# Altium schematic symbol library CAN2XG.SCHLIB: 35 symbols
Pins are listed as number, name and electrical type; pins without a type are passive.

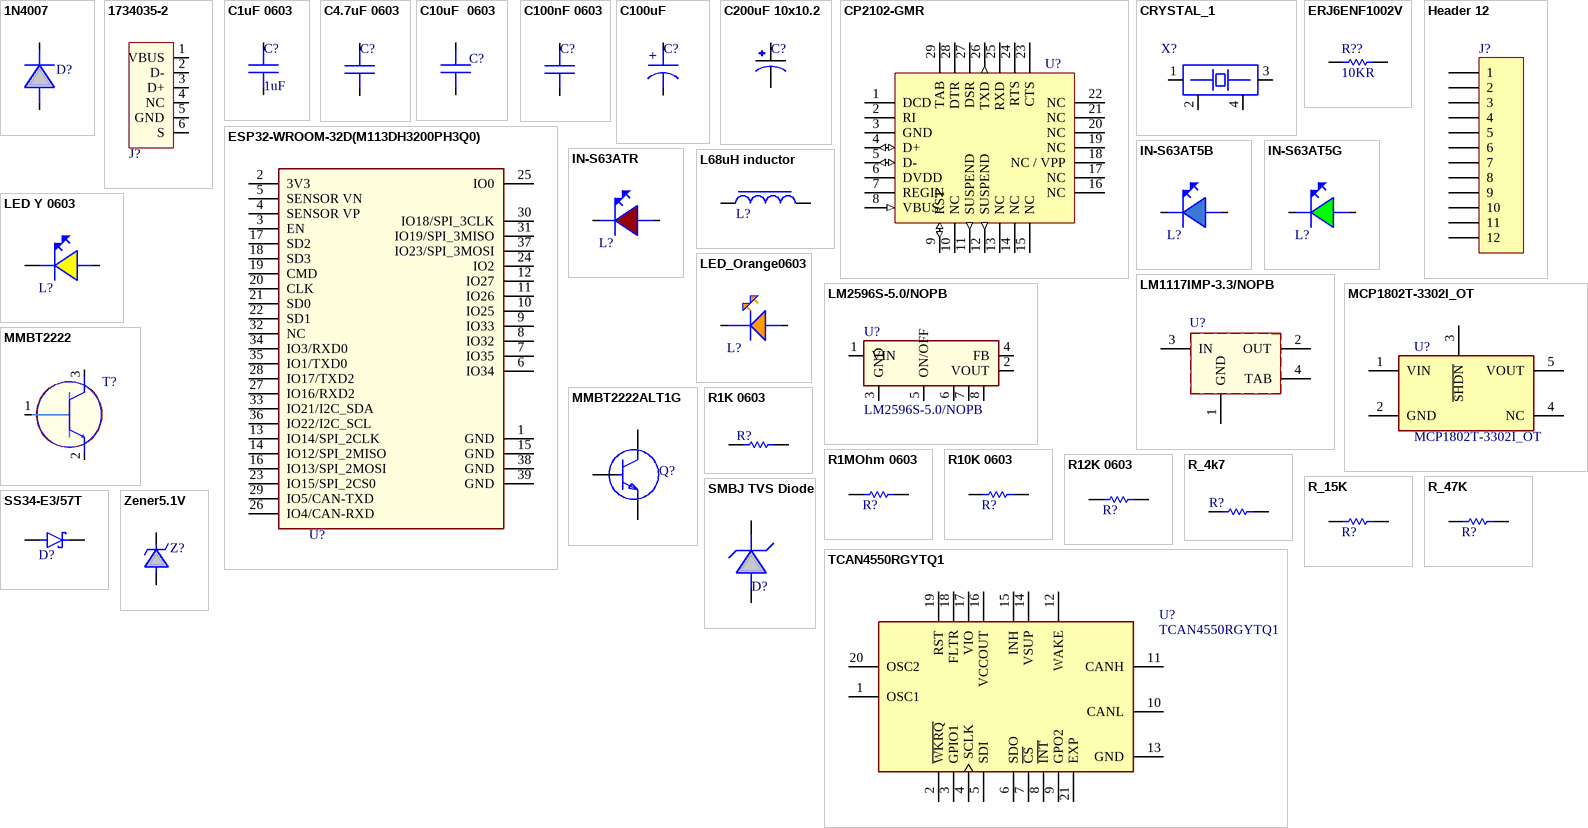
[diagram p0: symbols 1N4007 to Zener5.1V]

## 1N4007
designator D?  (value not drawn)
DO214 SMD Version of 1N4007 / Forward Current: 1A / Max Repititive Reverse Voltage: 1000 V / Max RMS Voltage: 700V / Max DC Blocking Voltage: 1000V / Max instantaneous forward voltage: 1.1 V                    https://www.ktron.in/product/m7-diode-sma/; ComponentLink1Description: Supplier Link; ComponentLink1URL: https://www.ktron.in/product/m7-diode-sma/
footprint DO214 (1N4007)
pins: 1 K, 2 A

## 1734035-2
designator J?  (value not drawn)
CONN RCPT USB2.0 MINI B SMD R/A                         https://www.sunrom.com/p/usb-mini-b-smd-connector; Manufacturer 1: TE Connectivity; Category 1: Connectors; Plating: Nickel; Gender: Receptacle; Number of Contacts: 5; Number of Ports: 1; Plating Thickness: 0.76um; Contact Current Rating: 1A; Circuit Application: Power; Connector System: Cable-to-Board; Insulation Resistance: 100MR; Pitch: 0.8mm; PCB Thickness: 1.57mm; Supplier 1: Digi-Key; Supplier Part Number 1: A31727CT-ND; Manufacturer Part Number 1: 1734035-2; RoHS: Yes; Description 1: CONN RCPT USB2.0 MINI B SMD R/A; Stock 1: 19934; Pricing 1: 1=1.14000, 10=1.00300, 25=0.94360, 50=0.90440, 100=0.86500, 250=0.78640 (USD); Mount: Surface Mount,Horizontal; Contact Plating: Nickel,Gold; Contact Material: Bronze; Color: Black; Number of Terminals: 5; Housing Color: Black; Housing Material: Thermoplastic; Min Operating Temperature: -40°C; Max Operating Temperature: 85°C; Packaging: Tape and Reel; Package Quantity: 700; Connector Type: Receptacle; Termination: SMD/SMT; Number of Positions: 5; Orientation: Right Angle; USB Standard: USB 2.0; Length: 8.45mm; Width: 7.7mm; Radiation Hardening: No; ELV: Compliant; Flammability Rating: UL94 V-0; REACH SVHC: No SVHC; Lead Free: Lead Free; ComponentLink1URL: https://datasheet.ciiva.com/11759/0900766b80ed62f8-11759638.pdf?src-supplier=RSComponents; ComponentLink1Description: https://datasheet.ciiva.com/11759/0900766b80ed62f8-11759638.pdf?src-supplier=RSComponents; ComponentLink2URL: https://datasheet.ciiva.com/16292/1734035-2-16292193.pdf?src-supplier=Future+Electronics; ComponentLink2Description: https://datasheet.ciiva.com/16292/1734035-2-16292193.pdf?src-supplier=Future+Electronics; ComponentLink3URL: https://datasheet.ciiva.com/30172/ddecontrolleractionsrchrtrvdocnm117734536doctypedsdoclan-30172977.pdf?src-supplier=Onlinecomponents.com; ComponentLink3Description: https://datasheet.ciiva.com/30172/ddecontrolleractionsrchrtrvdocnm117734536doctypedsdoclan-30172977.pdf?src-supplier=Onlinecomponents.com; ComponentLink4URL: https://datasheet.ciiva.com/3094/eng-cd-1734035-a-3094354.pdf?src-supplier=Avnet; ComponentLink4Description: https://datasheet.ciiva.com/3094/eng-cd-1734035-a-3094354.pdf?src-supplier=Avnet; ComponentLink5URL: https://datasheet.ciiva.com/8015/1650952-8015098.pdf?src-supplier=Element14; ComponentLink5Description: https://datasheet.ciiva.com/8015/1650952-8015098.pdf?src-supplier=Element14; ComponentLink6URL: https://datasheet.ciiva.com/851/eng-cd-1734035-e1-c-1734035-851069.pdf?src-supplier=Digi-Key; ComponentLink6Description: https://datasheet.ciiva.com/851/eng-cd-1734035-e1-c-1734035-851069.pdf?src-supplier=Digi-Key; ComponentLink7URL: https://datasheet.ciiva.com/851/eng-cd-1734035-e1-c-1734035-851070.pdf?src-supplier=Digi-Key; ComponentLink7Description: https://datasheet.ciiva.com/851/eng-cd-1734035-e1-c-1734035-851070.pdf?src-supplier=Digi-Key; ComponentLink8URL: https://datasheet.ciiva.com/1098/1650952-1098129.pdf?src-supplier=Element14; ComponentLink8Description: https://datasheet.ciiva.com/1098/1650952-1098129.pdf?src-supplier=Element14; ComponentLink9URL: https://datasheet.ciiva.com/16545/eng-cd-1734035-a-16545803.pdf?src-supplier=Avnet+Europe; ComponentLink9Description: https://datasheet.ciiva.com/16545/eng-cd-1734035-a-16545803.pdf?src-supplier=Avnet+Europe; ComponentLink10URL: https://datasheet.ciiva.com/851/eng-cd-1734035-e1-c-1734035-851068.pdf?src-supplier=Digi-Key; ComponentLink10Description: https://datasheet.ciiva.com/851/eng-cd-1734035-e1-c-1734035-851068.pdf?src-supplier=Digi-Key
footprint 1734035-2USB
pins: 1 VBUS, 2 D-, 3 D+, 4 NC, 5 GND, 6 S

## C1uF 0603
designator C?, comment 1uF
CAP CER 1UF 25V  0603     https://www.sunrom.com/p/1uf-105-0603-1608-metric; Tolerance: 80%; Dielectric: Y5V; RoHS: Yes; Mount: Surface Mount; Case/Package: 0603; Weight: 0.000194oz; Case Code (Metric): 2012; Case Code (Imperial): 0603; Max Operating Temperature: 85°C; Package Quantity: 1; Voltage Rating: 25V; Packaging: Tape and Reel; Voltage Rating (DC): 25V; Termination: SMD/SMT; Composition: Ceramic; Length: 2mm; Height: 0.85mm; Width: 0.049inch; Thickness: 0.033inch; Depth: 1.25mm; Radiation Hardening: No; REACH SVHC: No SVHC; Lead Free: Lead Free; Halogen Free: Halogen Free; ComponentLink1URL: https://datasheet.ciiva.com/26863/getdatasheetpartid-419810-26863011.pdf?src-supplier=Verical; ComponentLink1Description: https://datasheet.ciiva.com/26863/getdatasheetpartid-419810-26863011.pdf?src-supplier=Verical; ComponentLink2URL: https://datasheet.ciiva.com/144/mlccorderingcode-144703.pdf?src-supplier=Digi-Key; ComponentLink2Description: https://datasheet.ciiva.com/144/mlccorderingcode-144703.pdf?src-supplier=Digi-Key; ComponentLink3URL: https://datasheet.ciiva.com/144/mlccorderingcode-144704.pdf?src-supplier=Digi-Key; ComponentLink3Description: https://datasheet.ciiva.com/144/mlccorderingcode-144704.pdf?src-supplier=Digi-Key; ComponentLink4URL: https://datasheet.ciiva.com/144/mlccorderingcode-144705.pdf?src-supplier=Digi-Key; ComponentLink4Description: https://datasheet.ciiva.com/144/mlccorderingcode-144705.pdf?src-supplier=Digi-Key; ComponentLink5URL: https://datasheet.ciiva.com/13208/upy-gp-np0-16v-to-50v-8-13208251.pdf?src-supplier=Mouser; ComponentLink5Description: https://datasheet.ciiva.com/13208/upy-gp-np0-16v-to-50v-8-13208251.pdf?src-supplier=Mouser; ComponentLink6URL: https://datasheet.ciiva.com/28450/1132289-28450860.pdf?src-supplier=Element14; ComponentLink6Description: https://datasheet.ciiva.com/28450/1132289-28450860.pdf?src-supplier=Element14; Capacitance: 1uF
footprint CAP-0603
pins: 1, 2

## C4.7uF 0603
designator C?, comment 4.7uF  (value not drawn)
Capacitance: 4.7uF / Voltage: 50V / Mounting: SMD / Tolerance: ±10 % / Material: Ceramic                https://robu.in/product/4-7uf-4700nf-50v-capacitor-0603-smd-package-pack-of-10/
footprint CAP-0603
pins: 1, 2

## C10uF  0603
designator C?, comment 10uF  (value not drawn)
Multi Layered Ceramic Capacitor / Max Voltage: 25V / Capacitance: 10uF / Manufacturer : Yageo / MFN : CC0603MRX5R8BB106   https://www.ktron.in/product/10uf-25v-ceramic-capacitor-mlcc-smd-0603/
footprint CAP-0603
pins: 1, 2

## C100nF 0603
designator C?, comment 100nF  (value not drawn)
Multi Layered Ceramic Capacitor / Max Voltage: 50V / Capacitance: 100nF / https://www.ktron.in/product/100nf-50v-104-mlcc-0603/
footprint CAP-0603
pins: 1, 2

## C100uF
designator C?, comment 100uf 16V  (value not drawn)
100uF 16V (107C B3528) Tantalum                          https://www.sunrom.com/p/100uf-16v-107c-b3528-tantalum
footprint C100uF (Tantalum Capacitor 3528)
pins: 1 +, 2 -

## C200uF 10x10.2
designator C?, comment 200uF  (value not drawn)
220uF 50V 10x10.5mm SMD Electrolytic Capacitor      https://www.sunrom.com/p/220uf-50v-10x105mm-smd-electrolytic-capacitor
footprint C200uF 10x10.2 (Electrolytic Capacitor)
pins: 1, 2

## CP2102-GMR
designator U?  (value not drawn)
USB-to-UART 1-CH 640byte FIFO 3.3V Automotive 28-Pin QFN EP T/R; Manufacturer 1: Silicon Labs; Category 1: Interface ICs; Nominal Supply Current: 26mA; Number of Channels: 1; Data Rate: 1000Kbps; Max Supply Voltage: 3.6V; Min Supply Voltage: 3V; Operating Supply Current: 20mA; Interface: UART; Manufacturer Part Number 1: CP2102-GMR; RoHS: Yes; Description 1: USB-to-UART 1-CH 640byte FIFO 3.3V Automotive 28-Pin QFN EP T/R; Stock 1: 1496; Pricing 1: 1=3.17000, 25=3.05560, 100=3.03850 (USD); Mount: Surface Mount; Case/Package: QFN; Number of Pins: 28; Weight: 0.00239oz; Contact Plating: Tin; Min Operating Temperature: -40°C; Max Operating Temperature: 85°C; Packaging: Tape and Reel; Package Quantity: 1500; Radiation Hardening: No; Lead Free: Lead Free; ComponentLink1URL: https://datasheet.ciiva.com/6636/cp2102-9-6636566.pdf?src-supplier=Digi-Key; ComponentLink1Description: https://datasheet.ciiva.com/6636/cp2102-9-6636566.pdf?src-supplier=Digi-Key; ComponentLink2URL: https://datasheet.ciiva.com/6636/cp2102-9-6636571.pdf?src-supplier=Digi-Key; ComponentLink2Description: https://datasheet.ciiva.com/6636/cp2102-9-6636571.pdf?src-supplier=Digi-Key; Supplier 1: Digi-Key; Supplier Part Number 1: 336-1160-1-ND
footprint QFN50P500X500X100_HS-29N (QFN, 28-Leads, Body 5.00x5.00mm, Pitch 0.50mm, Thermal Pad 3.13x3.13mm, IPC Medium Density)
pins: 1 DCD "Data Carrier Detect control input (active low)", 2 RI "Ring Indicator control input (active low)", 3 GND (power) "Ground", 4 D+ (io) "USB D+", 5 D- (io) "USB D–", 6 DVDD (power) "3.0–3.6 V Power Supply Voltage Input.", 7 REGIN (power) "5 V Regulator Input. This pin is the input to the on-chip voltage regulator.", 8 VBUS (in) "VBUS Sense Input. This pin should be connected to the VBUS signal", 9 RST (io) "Device Reset. Open-drain output of internal POR or VDD monitor", 10 NC "These pins should be left unconnected", 11 SUSPEND (out) "This pin is driven high when the CP2102/9 enters the USB suspend", 12 SUSPEND (out) "This pin is driven high when the CP2102/9 enters the USB suspend", 13 NC "These pins should be left unconnected", 14 NC "These pins should be left unconnected", 15 NC "These pins should be left unconnected", 16 NC "These pins should be left unconnected", 17 NC "These pins should be left unconnected", 18 NC / VPP (power) "This pin should be left unconnected or tied to VDD", 19 NC "These pins should be left unconnected", 20 NC "These pins should be left unconnected", 21 NC "These pins should be left unconnected", 22 NC "These pins should be left unconnected", 23 CTS "Clear To Send control input (active low)", 24 RTS "Ready to Send control output (active low)", 25 RXD "Asynchronous data input (UART Receive)", 26 TXD (out) "Asynchronous data output (UART Transmit)", 27 DSR "Data Set Ready control input (active low)", 28 DTR "Data Terminal Ready control output (active low)", 29 TAB (power) "Ground"

## CRYSTAL_1
designator X?
ComponentLink1URL: https://www.verical.com/server-webapp/html/getDatasheet?partID=757227&src-supplier=Verical; ComponentLink1Description: https://www.verical.com/server-webapp/html/getDatasheet?partID=757227&src-supplier=Verical; ComponentLink2URL: http://www.txccrystal.com/images/pdf/7m-accuracy.pdf?src-supplier=Digi-Key; ComponentLink2Description: http://www.txccrystal.com/images/pdf/7m-accuracy.pdf?src-supplier=Digi-Key; ComponentLink3URL: http://www.farnell.com/datasheets/1794111.pdf?src-supplier=Element14; ComponentLink3Description: http://www.farnell.com/datasheets/1794111.pdf?src-supplier=Element14; ComponentLink4URL: http://www.mouser.com/ds/2/417/7m-11184.pdf?src-supplier=Mouser; ComponentLink4Description: http://www.mouser.com/ds/2/417/7m-11184.pdf?src-supplier=Mouser
pins: 1, 2, 3, 4

## ERJ6ENF1002V
designator R??  value 10KR  (hidden comment: ERJ6ENF1002V)
RES SMD 10K OHM 1% 1/8W 0805; ComponentLink1URL: https://datasheet.ciiva.com/11808/0900766b80f80784-11808080.pdf?src-supplier=RSComponents; ComponentLink1Description: https://datasheet.ciiva.com/11808/0900766b80f80784-11808080.pdf?src-supplier=RSComponents; ComponentLink2URL: https://datasheet.ciiva.com/16514/aoa0000ce2-16514021.pdf?src-supplier=Avnet+Asia; ComponentLink2Description: https://datasheet.ciiva.com/16514/aoa0000ce2-16514021.pdf?src-supplier=Avnet+Asia; ComponentLink3URL: https://datasheet.ciiva.com/27055/1988971-27055733.pdf?src-supplier=Jameco; ComponentLink3Description: https://datasheet.ciiva.com/27055/1988971-27055733.pdf?src-supplier=Jameco; ComponentLink4URL: https://datasheet.ciiva.com/16759/70260748-16759350.pdf?src-supplier=Allied+Electronics; ComponentLink4Description: https://datasheet.ciiva.com/16759/70260748-16759350.pdf?src-supplier=Allied+Electronics; ComponentLink5URL: https://datasheet.ciiva.com/16725/70260748-16725031.pdf?src-supplier=Allied+Electronics; ComponentLink5Description: https://datasheet.ciiva.com/16725/70260748-16725031.pdf?src-supplier=Allied+Electronics; ComponentLink6URL: https://datasheet.ciiva.com/7830/426256-7830745.pdf?src-supplier=Element14; ComponentLink6Description: https://datasheet.ciiva.com/7830/426256-7830745.pdf?src-supplier=Element14; ComponentLink7URL: https://datasheet.ciiva.com/46372/1678782-46372714.pdf?src-supplier=Element14; ComponentLink7Description: https://datasheet.ciiva.com/46372/1678782-46372714.pdf?src-supplier=Element14; ComponentLink8URL: https://datasheet.ciiva.com/46372/1678782-46372715.pdf?src-supplier=Element14; ComponentLink8Description: https://datasheet.ciiva.com/46372/1678782-46372715.pdf?src-supplier=Element14; ComponentLink9URL: https://datasheet.ciiva.com/17212/aoa0000ce2-17212108.pdf?src-supplier=Avnet+Europe; ComponentLink9Description: https://datasheet.ciiva.com/17212/aoa0000ce2-17212108.pdf?src-supplier=Avnet+Europe; ComponentLink10URL: https://datasheet.ciiva.com/30140/aoa0000ce2-30140236.pdf?src-supplier=Onlinecomponents.com; ComponentLink10Description: https://datasheet.ciiva.com/30140/aoa0000ce2-30140236.pdf?src-supplier=Onlinecomponents.com
footprint RES0805 (Chip Resistor, 2-Leads, Body 2.00x1.25mm, IPC Medium Density)
pins: 1, 2

## ESP32-WROOM-32D(M113DH3200PH3Q0)
designator U?  (value not drawn)
WiFi Modules (802.11) SMD Module, ESP32-D0WD, 32Mbits SPI 4MB flash, UART mode, PCB antenna                     https://www.ktron.in/product/esp32-wroom-32d/; Manufacturer 1: Espressif Systems; Supplier 1: Mouser; Supplier Part Number 1: 356-ESP32WROOM-32D; Manufacturer Part Number 1: ESP32-WROOM-32D(M113DH3200PH3Q0); Stock 1: 3862; Pricing 1: 1=3.80000, 5=3.80000 (USD)
footprint Espressif_Systems_ESP32-WROOM-32D_MFG
pins: 1 GND, 2 3V3, 3 EN, 4 SENSOR VP, 5 SENSOR VN, 6 IO34, 7 IO35, 8 IO32, 9 IO33, 10 IO25, 11 IO26, 12 IO27, 13 IO14/SPI_2CLK, 14 IO12/SPI_2MISO, 15 GND, 16 IO13/SPI_2MOSI, 17 SD2, 18 SD3, 19 CMD, 20 CLK, 21 SD0, 22 SD1, 23 IO15/SPI_2CS0, 24 IO2, 25 IO0, 26 IO4/CAN-RXD, 27 IO16/RXD2, 28 IO17/TXD2, 29 IO5/CAN-TXD, 30 IO18/SPI_3CLK, 31 IO19/SPI_3MISO, 32 NC, 33 IO21/I2C_SDA, 34 IO3/RXD0, 35 IO1/TXD0, 36 IO22/I2C_SCL, 37 IO23/SPI_3MOSI, 38 GND, 39 GND

## Header 12
designator J?  (value not drawn)
Header, 12-Pin; LatestRevisionDate: 17-Jul-2002; LatestRevisionNote: Re-released for DXP Platform.; Publisher: Altium Limited
footprint HDR1X12 (Connector; Header; 12 Position)
signal-integrity model Connector
pins: 1, 2, 3, 4, 5, 6, 7, 8, 9, 10, 11, 12

## IN-S63AT5B
designator L?, comment LED_BLUE  (value not drawn)
LED BLUE CLEAR 0603 SMD                               https://www.sunrom.com/p/blue-smd-led-0603; Manufacturer 1: Inolux; Manufacturer Part Number 1: IN-S63AT5B; Category 1: LEDs; Supplier 1: Digi-Key; Supplier Part Number 1: 1830-1061-1-ND; RoHS: No; Description 1: LED BLUE CLEAR 0603 SMD; Stock 1: 6827; Pricing 1: 1=0.34000, 10=0.25200, 100=0.11930, 500=0.07950, 1000=0.06228 (USD); ComponentLink1URL: http://www.inolux-corp.com/datasheet/SMDLED/Mono%20Color%20Top%20View/IN-S63AT%20Series_V1.1.pdf?src-supplier=Digi-Key; ComponentLink1Description: http://www.inolux-corp.com/datasheet/SMDLED/Mono%20Color%20Top%20View/IN-S63AT%20Series_V1.1.pdf?src-supplier=Digi-Key
footprint LEDBLUE0603
pins: 1 C, 2 A

## IN-S63AT5G
designator L?, comment LED_GREEN  (value not drawn)
LED GREEN CLEAR 0603 SMD  https://www.ktron.in/product/smd-green-led-0603-package/; Manufacturer 1: Inolux; Manufacturer Part Number 1: IN-S63AT5G; Category 1: LEDs; Supplier 1: Digi-Key; Supplier Part Number 1: 1830-1062-1-ND; RoHS: No; Description 1: LED GREEN CLEAR 0603 SMD; Stock 1: 37; Pricing 1: 1=0.52000, 10=0.37200, 100=0.16540, 500=0.11576, 1000=0.09508 (USD); ComponentLink1URL: http://www.inolux-corp.com/datasheet/SMDLED/Mono%20Color%20Top%20View/IN-S63AT%20Series_V1.1.pdf?src-supplier=Digi-Key; ComponentLink1Description: http://www.inolux-corp.com/datasheet/SMDLED/Mono%20Color%20Top%20View/IN-S63AT%20Series_V1.1.pdf?src-supplier=Digi-Key
footprint LEDGREEN0603
pins: 1 C, 2 A

## IN-S63ATR
designator L?, comment LED_RED  (value not drawn)
LED RED CLEAR 0603 SMD   https://www.ktron.in/product/smd-red-led-0603/; Manufacturer 1: Inolux; Manufacturer Part Number 1: IN-S63ATR; Supplier 1: Digi-Key; Supplier Part Number 1: 1830-1065-1-ND; RoHS: No; Description 1: LED RED CLEAR 0603 SMD; Stock 1: 15120; Pricing 1: 1=0.34000, 10=0.25200, 100=0.11930, 500=0.07950, 1000=0.06228 (USD); ComponentLink1URL: http://www.inolux-corp.com/datasheet/SMDLED/Mono%20Color%20Top%20View/IN-S63AT%20Series_V1.1.pdf?src-supplier=Digi-Key; ComponentLink1Description: http://www.inolux-corp.com/datasheet/SMDLED/Mono%20Color%20Top%20View/IN-S63AT%20Series_V1.1.pdf?src-supplier=Digi-Key
footprint LEDRED0603
pins: 1 C, 2 A

## L68uH inductor
designator L?, comment 68uH  (value not drawn)
68uH Inductor 12x12 adj to 10x10                              https://robu.in/product/cdrh104r-68%ce%bch-power-inductor-pack-of-5/
footprint IND-WE-PD 1050-10X10X5MM (SMD Inductor, 2-Leads, Body 10,0x10.2,X5)
pins: 1, 2

## LED Y 0603
designator L?, comment LED Yellow  (value not drawn)
https://www.ktron.in/product/smd-yellow-led-0603/
footprint LEDRED0603
pins: 1 C, 2 A

## LED_Orange0603
designator L?, comment Orange LED  (value not drawn)
Orange SMD LED 0603    https://www.sunrom.com/p/orange-smd-led-0603
footprint LEDRED0603
pins: 1 C, 2 A

## LM1117IMP-3.3/NOPB
designator U?  (value not drawn)
TEXAS INSTRUMENTS         LM1117IMP-3.3/NOPB             Fixed LDO Voltage Regulator, 15V in, 1.2V Dropout, 3.3V/800mA out, SOT-223-3         https://www.ktron.in/product/ams1117-3-3v-smd/; Category 1: Voltage Regulators - Linear; Output Voltage: 3.3V; Number of Outputs: 1; Output Current: 800mA; Polarity: Positive; Quiescent Current: 15mA; Accuracy: 1%; Min Input Voltage: 2.6V; Current Rating: 800A; Max Supply Voltage: 10V; Min Supply Voltage: 4.75V; Supplier 1: Digi-Key; Supplier Part Number 1: LM1117IMP-3.3/NOPBCT-ND; Manufacturer 1: Texas Instruments; Manufacturer Part Number 1: LM1117IMP-3.3/NOPB; RoHS: Yes; Description 1: TEXAS INSTRUMENTS         LM1117IMP-3.3/NOPB             Fixed LDO Voltage Regulator, 15V in, 1.2V Dropout, 3.3V/800mA out, SOT-223-3; Stock 1: 17849; Pricing 1: 1=1.10000, 10=0.98500, 100=0.71810, 500=0.60120 (USD); Mount: Surface Mount; Case/Package: SOT-223; Number of Pins: 4; Min Operating Temperature: -40°C; Max Operating Temperature: 125°C; Packaging: Tape and Reel; Dropout Voltage: 1.2V; Max Input Voltage: 15V; Max Output Current: 800mA; Output Voltage Accuracy: 1%; Output Type: Fixed; Nominal Output Voltage: 3.3V; Package Quantity: 1000; Number of Regulators: 1; Min Current Limit: 800mA; Termination: SMD/SMT; Length: 6.5mm; Height: 1.6mm; Width: 3.56mm; Radiation Hardening: No; REACH SVHC: No SVHC; Lead Free: Lead Free; ComponentLink1URL: https://datasheet.ciiva.com/27051/1281318-27051810.pdf?src-supplier=Jameco; ComponentLink1Description: https://datasheet.ciiva.com/27051/1281318-27051810.pdf?src-supplier=Jameco; ComponentLink2URL: https://datasheet.ciiva.com/8042/1670636-8042261.pdf?src-supplier=Element14; ComponentLink2Description: https://datasheet.ciiva.com/8042/1670636-8042261.pdf?src-supplier=Element14; ComponentLink3URL: https://datasheet.ciiva.com/6580/lm1117-n-6580026.pdf?src-supplier=Digi-Key; ComponentLink3Description: https://datasheet.ciiva.com/6580/lm1117-n-6580026.pdf?src-supplier=Digi-Key; ComponentLink4URL: https://datasheet.ciiva.com/46386/1882372-46386042.pdf?src-supplier=Element14; ComponentLink4Description: https://datasheet.ciiva.com/46386/1882372-46386042.pdf?src-supplier=Element14; ComponentLink5URL: https://datasheet.ciiva.com/1570/1849796-1570171.pdf?src-supplier=Farnell; ComponentLink5Description: https://datasheet.ciiva.com/1570/1849796-1570171.pdf?src-supplier=Farnell; ComponentLink6URL: https://datasheet.ciiva.com/3223/lm1117-n-3223515.pdf?src-supplier=Avnet; ComponentLink6Description: https://datasheet.ciiva.com/3223/lm1117-n-3223515.pdf?src-supplier=Avnet; ComponentLink7URL: https://datasheet.ciiva.com/14149/lm1117-eng-tds-14149980.pdf?src-supplier=Distrelec; ComponentLink7Description: https://datasheet.ciiva.com/14149/lm1117-eng-tds-14149980.pdf?src-supplier=Distrelec; ComponentLink8URL: https://datasheet.ciiva.com/6580/lm1117-n-6580030.pdf?src-supplier=Digi-Key; ComponentLink8Description: https://datasheet.ciiva.com/6580/lm1117-n-6580030.pdf?src-supplier=Digi-Key
footprint SOT223 (SOT223, 4-Leads, Body 6.5x3.5mm, Pitch 2.3mm, Lead Span 7mm, IPC Low Density)
pins: 1 GND (power), 2 OUT (power), 3 IN (power), 4 TAB (power)

## LM2596S-5.0/NOPB
designator U?
Conv DC-DC 4.5V to 40V Inv/Step Down Single-Out 5V 3A 6-Pin(5+Tab) TO-263 Tube            https://www.ktron.in/product/lm2596s-5v-ic/; Manufacturer 1: TI National Semiconductor; Category 1: Power Supply Modules; Number of Outputs: 1; Switching Frequency: 173kHz; Output Type: Fixed; Efficiency: 80%; Quiescent Current: 5mA; Supplier 1: Digi-Key; Supplier Part Number 1: LM2596S-5.0/NOPB-ND; Manufacturer Part Number 1: LM2596S-5.0/NOPB; RoHS: Yes; Description 1: Conv DC-DC 4.5V to 40V Inv/Step Down Single-Out 5V 3A 6-Pin(5+Tab) TO-263 Tube; Stock 1: 153; Pricing 1: 1=5.72000, 10=5.14100, 25=4.86000, 100=3.99600, 500=3.45600, 1000=2.87280, 2500=2.76480 (USD); Mount: Surface Mount; Case/Package: TO-263; Number of Pins: 5; Weight: 0.25lb; Contact Plating: Tin,Matte; Min Operating Temperature: -40°C; Max Operating Temperature: 125°C; Min Input Voltage: 4.5V; Output Current: 3A; Packaging: Rail/Tube; Output Voltage: 5V; Max Input Voltage: 40V; Max Output Current: 3A; Package Quantity: 45; Operating Supply Voltage: 40V; Nominal Output Voltage: 5V; Length: 10.16mm; Height: 4.57mm; Width: 8.64mm; Radiation Hardening: No; Lead Free: Contains Lead; REACH SVHC: No SVHC; ComponentLink1URL: https://datasheet.ciiva.com/15112/getdatasheetpartid-112894-15112928.pdf?src-supplier=Verical; ComponentLink1Description: https://datasheet.ciiva.com/15112/getdatasheetpartid-112894-15112928.pdf?src-supplier=Verical; ComponentLink2URL: https://datasheet.ciiva.com/27050/836385-27050287.pdf?src-supplier=Jameco; ComponentLink2Description: https://datasheet.ciiva.com/27050/836385-27050287.pdf?src-supplier=Jameco; ComponentLink3URL: https://datasheet.ciiva.com/14150/jqlm2596x-xx-e-14150651.pdf?src-supplier=Distrelec; ComponentLink3Description: https://datasheet.ciiva.com/14150/jqlm2596x-xx-e-14150651.pdf?src-supplier=Distrelec; ComponentLink4URL: https://datasheet.ciiva.com/41457/001013813-da-01-en-ic-reg-buc-lm2596s-5-0-nopb-to-263-5-tid-41457757.pdf?src-supplier=Conrad; ComponentLink4Description: https://datasheet.ciiva.com/41457/001013813-da-01-en-ic-reg-buc-lm2596s-5-0-nopb-to-263-5-tid-41457757.pdf?src-supplier=Conrad; ComponentLink5URL: https://datasheet.ciiva.com/6596/lm2596-6596343.pdf?src-supplier=Digi-Key; ComponentLink5Description: https://datasheet.ciiva.com/6596/lm2596-6596343.pdf?src-supplier=Digi-Key; ComponentLink6URL: https://datasheet.ciiva.com/22669/1874590-22669463.pdf?src-supplier=Element14; ComponentLink6Description: https://datasheet.ciiva.com/22669/1874590-22669463.pdf?src-supplier=Element14; ComponentLink7URL: https://datasheet.ciiva.com/16536/lm2596-16536124.pdf?src-supplier=Avnet+Asia; ComponentLink7Description: https://datasheet.ciiva.com/16536/lm2596-16536124.pdf?src-supplier=Avnet+Asia
footprint to-263
pins: 1 VIN, 2 VOUT, 3 GND, 4 FB, 5 ON/OFF, 6, 7, 8

## MCP1802T-3302I_OT
designator U?
LDO Regulator 300mA 3.3V PSRR SOT23-5; Manufacturer_Name: Microchip; Manufacturer_Part_Number: MCP1802T-3302I/OT; Geometry.Height: 1.45mm; Mouser Part Number: 579-MCP1802T-3302IOT; Mouser Price/Stock: https://www.mouser.co.uk/ProductDetail/Microchip-Technology/MCP1802T-3302I-OT?qs=aE5D7Pt6ky3xGZErL37L5Q%3D%3D; Datasheet Link: http://ww1.microchip.com/downloads/en/DeviceDoc/22053C.pdf
footprint SOT95P270X145-5N
pins: 1 VIN, 2 GND, 3 ~{SHDN}, 4 NC, 5 VOUT

## MMBT2222
designator T?  (value not drawn)
2N2222  https://www.ktron.in/product/mmbt2222a-transistor-2n2222a-smd-sot-23/
footprint 2N2222 (MMBT2222)
pins: 1 B, 2 E, 3 C

## MMBT2222ALT1G
designator Q?  (value not drawn)
TRANS NPN 40V 0.6A SOT23                  https://www.ktron.in/product/mmbt2222a-transistor-2n2222a-smd-sot-23/; Manufacturer 1: ON Semiconductor; Category 1: BJTs; Collector Base Voltage (VCBO): 75V; Emitter Base Voltage (VEBO): 6V; Max Collector Current: 600mA; Max Power Dissipation: 300mW; Element Configuration: Single; Gain Bandwidth Product: 300MHz; hFE Min: 100; Number of Elements: 1; Collector Emitter Saturation Voltage: 1V; Type: General Purpose; Supplier 1: Digi-Key; Supplier Part Number 1: MMBT2222ALT1GOSCT-ND; Manufacturer Part Number 1: MMBT2222ALT1G; RoHS: Yes; Description 1: TRANS NPN 40V 0.6A SOT23; Stock 1: 500504; Pricing 1: 1=0.14000, 10=0.12600, 100=0.05270, 500=0.04138, 1000=0.02874 (USD); Case/Package: SOT-23-3; Number of Pins: 3; Contact Plating: Tin,Matte; Min Operating Temperature: -55°C; Max Operating Temperature: 150°C; Collector Emitter Voltage (VCEO): 40V; Packaging: Tape and Reel; Polarity: NPN; Package Quantity: 1; Collector Emitter Breakdown Voltage: 40V; Transition Frequency: 300MHz; Power Dissipation: 300mW; Frequency: 300MHz; Max Breakdown Voltage: 40V; Voltage Rating (DC): 40V; Current Rating: 600mA; Max Frequency: 300MHz; Length: 2.9mm; Height: 0.94mm; Width: 1.3mm; Radiation Hardening: No; Lead Free: Lead Free; REACH SVHC: No SVHC; ComponentLink1URL: https://datasheet.ciiva.com/16199/mmbt2222lt1-d-16199072.pdf?src-supplier=Future+Electronics; ComponentLink1Description: https://datasheet.ciiva.com/16199/mmbt2222lt1-d-16199072.pdf?src-supplier=Future+Electronics; ComponentLink2URL: https://datasheet.ciiva.com/15139/getdatasheetpartid-82691-15139077.pdf?src-supplier=Verical; ComponentLink2Description: https://datasheet.ciiva.com/15139/getdatasheetpartid-82691-15139077.pdf?src-supplier=Verical; ComponentLink3URL: https://datasheet.ciiva.com/7972/mmbt2222lt1-d-7972057.pdf?src-supplier=Element14; ComponentLink3Description: https://datasheet.ciiva.com/7972/mmbt2222lt1-d-7972057.pdf?src-supplier=Element14; ComponentLink4URL: https://datasheet.ciiva.com/7972/mmbt2222lt1-d-7972058.pdf?src-supplier=Element14; ComponentLink4Description: https://datasheet.ciiva.com/7972/mmbt2222lt1-d-7972058.pdf?src-supplier=Element14; ComponentLink5URL: https://datasheet.ciiva.com/14546/70099528-14546715.pdf?src-supplier=Allied+Electronics; ComponentLink5Description: https://datasheet.ciiva.com/14546/70099528-14546715.pdf?src-supplier=Allied+Electronics; ComponentLink6URL: https://datasheet.ciiva.com/25998/mmbt2222lt1-d-25998815.pdf?src-supplier=Avnet+Europe; ComponentLink6Description: https://datasheet.ciiva.com/25998/mmbt2222lt1-d-25998815.pdf?src-supplier=Avnet+Europe; ComponentLink7URL: https://datasheet.ciiva.com/976/mmbt2222lt1-d-976344.pdf?src-supplier=Digi-Key; ComponentLink7Description: https://datasheet.ciiva.com/976/mmbt2222lt1-d-976344.pdf?src-supplier=Digi-Key; ComponentLink8URL: https://datasheet.ciiva.com/976/mmbt2222lt1-d-976345.pdf?src-supplier=Digi-Key; ComponentLink8Description: https://datasheet.ciiva.com/976/mmbt2222lt1-d-976345.pdf?src-supplier=Digi-Key; ComponentLink9URL: https://datasheet.ciiva.com/976/mmbt2222lt1-d-976346.pdf?src-supplier=Digi-Key; ComponentLink9Description: https://datasheet.ciiva.com/976/mmbt2222lt1-d-976346.pdf?src-supplier=Digi-Key; ComponentLink10URL: https://datasheet.ciiva.com/11201/mmbt2222lt1-d-11201869.pdf?src-supplier=Avnet; ComponentLink10Description: https://datasheet.ciiva.com/11201/mmbt2222lt1-d-11201869.pdf?src-supplier=Avnet
footprint SOT95P245X93-3N (SOT23, 3-Leads, Body 2.92x2.45mm, Pitch 0.95mm, IPC Medium Density)
pins: 1 B, 2 E, 3 C

## R1K 0603
designator R?, comment 1K 0603  (value not drawn)
SMD 0603 Package / Resistance: 1K Ohms / Tolerance: 1% / Power rating: 1/10W https://www.ktron.in/product/resistor-1k-ohms-1-1-10w-smd-0603/
footprint RESC1608X55X30ML15T15 (Chip Resistor, 2-Leads, Body 1.60x0.80mm, IPC Low Density)
pins: 1, 2

## R1MOhm 0603
designator R?, comment 1 MOhm  (value not drawn)
1 MOhm 0603                    https://robu.in/product/1m-ohm-1-4w-0603-surface-mount-chip-resistor-pack-of-100/
footprint RESC1608X55X30ML15T15 (Chip Resistor, 2-Leads, Body 1.60x0.80mm, IPC Low Density)
pins: 1, 2

## R10K 0603
designator R?, comment 10K 0603  (value not drawn)
SMD 0603 Package / Resistance: 10K Ohms / Tolerance: 1%  https://www.ktron.in/product/resistor-10k-ohms-1-10w-smd-0603/
footprint RESC1608X55X30ML15T15 (Chip Resistor, 2-Leads, Body 1.60x0.80mm, IPC Low Density)
pins: 1, 2

## R12K 0603
designator R?, comment 12K  (value not drawn)
12K 0603                          https://www.sunrom.com/p/12k-1-0603
footprint RESC1608X55X30ML15T15 (Chip Resistor, 2-Leads, Body 1.60x0.80mm, IPC Low Density)
pins: 1, 2

## R_4k7
designator R?, comment 4K7  (value not drawn)
4K7 0603             https://www.ktron.in/product/resistor-4-7k-ohms-1-1-10w-smd-0603/
footprint RESC1608X55X30ML15T15 (Chip Resistor, 2-Leads, Body 1.60x0.80mm, IPC Low Density)
pins: 1, 2

## R_15K
designator R?, comment 15K 0603  (value not drawn)
15K 1% 0603            https://www.sunrom.com/m/4663
footprint RESC1608X55X30ML15T15 (Chip Resistor, 2-Leads, Body 1.60x0.80mm, IPC Low Density)
pins: 1, 2

## R_47K
designator R?, comment 47K  (value not drawn)
47K 0603              https://www.ktron.in/product/resistor-47k-ohms-1-10w-1-smd-0603/
footprint RESC1608X55X30ML15T15 (Chip Resistor, 2-Leads, Body 1.60x0.80mm, IPC Low Density)
pins: 1, 2

## SMBJ TVS Diode
designator D?, comment SMBJ200A  (value not drawn)
DO-214AA (SMBJ) Low profile package / •TVS Diode 200V - Unidirectional - SMBJ200A - SMB                                  https://www.sunrom.com/p/tvs-diode-200v-unidirectional-smbj200a-smb
footprint DO214 (1N4007)
pins: 1 K, 2 A

## SS34-E3/57T
designator D?  (value not drawn)
Diode Schottky 40V 3A Surface Mount DO-214AB _SMC_                              https://www.ktron.in/product/ss34-diode-smb/; MF: Vishay; MP: SS34-E3/57T; Availability: Unavailable; SnapEDA_Link: https://www.snapeda.com/parts/SS34-E3/57T/Vishay%20Semiconductor%20Diodes%20Division/view-part/104253/?ref=snap; Package: DO-214 Vishay; Value: *; Price: None
footprint DO214 (1N4007)
pins: 1, 2

## TCAN4550RGYTQ1
designator U?
Automotive system basis chip (SBC) with integrated CAN FD controller & transceiver 20-VQFN -40 to 125; Package: None; Price: None; Value: *; MP: TCAN4550RGYTQ1; Availability: Unavailable
footprint IC_TCAN4550RGYTQ1
footprint IC_TCAN4550RGYRQ1
footprint IC_TCAN4550RGYTQ1
pins: 1 OSC1, 2 ~{WKRQ}, 3 GPIO1, 4 SCLK, 5 SDI, 6 SDO, 7 ~{CS}, 8 ~{INT}, 9 GPO2, 10 CANL, 11 CANH, 12 WAKE, 13 GND, 14 VSUP, 15 INH, 16 VCCOUT, 17 VIO, 18 FLTR, 19 RST, 20 OSC2, 21 EXP

## Zener5.1V
designator Z?, comment 5.1V Zener  (value not drawn)
Zener Diode 5.1V / 500mW / 5% Tolerance / SOD-80-2 Pacakge / SMD Equivalent of BZX55C5V1                    https://www.ktron.in/product/zener-diode-5v1-500mw-sod-80-2/; ComponentLink1Description: Supplier Link; ComponentLink1URL: https://www.ktron.in/product/zener-diode-5v1-500mw-sod-80-2/
footprint SOD80 (5.1V Zener Diode)
pins: 1 K, 2 A